# Altium schematic symbol library 保险丝.SchLib: 1 symbol
Pins are listed as number, name and electrical type; pins without a type are passive.

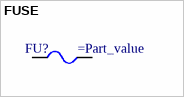
[diagram p0: symbol FUSE]

## FUSE
designator FU?
pins: 1, 2